# Altium integrated library Linear Technology PMIC-Switching Reg LT1074-LT8705.IntLib: 2252 symbols (part 8 of 124)
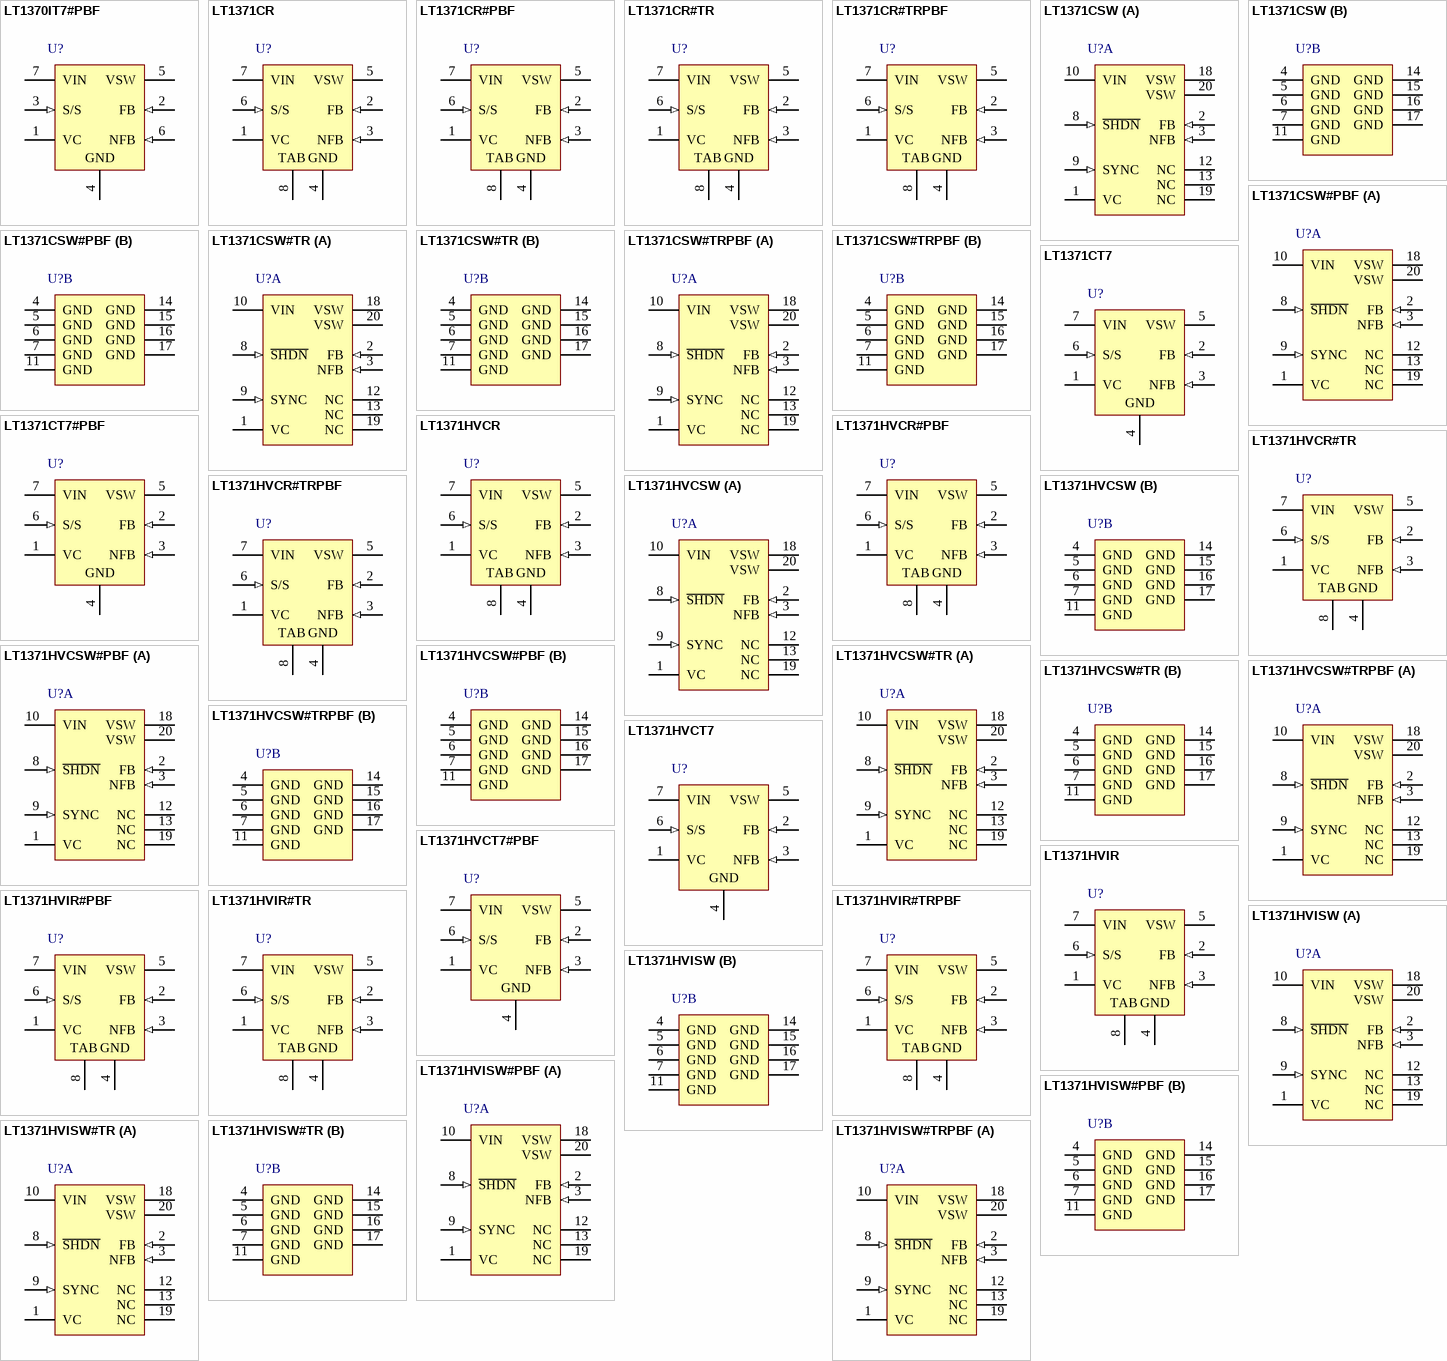
[diagram p78: symbols LT1370IT7#PBF to LT1371HVISW#TRPBF]

## LT1371CSW#PBF
designator U?
500 kHz High Efficiency 3 A Switching Regulator, 20-pin SOIC (SW-20), 0 to 125 degC, Pb-Free; Manufacturer: Linear Technology; PartNumber: LT1371CSW#PBF; Number of Outputs: 1; PackageReference: SW-20; PackageDescription: 20-Pin Plastic Small Outline, Body 12.80 x 7.49 mm, Pitch 1.27 mm; Supplier 1: Digi-Key; Supplier Part Number 1: LT1371CSW#PBF-ND; RoHS: TRUE
footprint LT-SW-20_N (SOIC, 20-Leads, Body 12.8x7.49mm, Pitch 1.27mm, IPC Medium Density)
footprint LT-SW-20_L (SOIC, 20-Leads, Body 12.8x7.49mm, Pitch 1.27mm, IPC High Density)
footprint LT-SW-20_M (SOIC, 20-Leads, Body 12.8x7.49mm, Pitch 1.27mm, IPC Low Density)
part A pins: 1 VC "The Compensation pin is used for frequency compensation, current limiting and soft start. It is the output of the error amplifier and the input of the current comparator. Loop frequency compensation can be performed with an (See Datasheet)", 2 FB (in) "The Feedback pin is used for positive output voltage sensing and oscillator frequency shifting. It is the inverting input to the error amplifier. The noninverting input of this amplifier is internally tied to a 1.245V (See Datasheet)", 3 NFB (in) "The Negative Feedback pin is used for negative output voltage sensing. It is connected to the inverting input of the negative feedback amplifier through a 100k source resistor.", 8 ~{SHDN} (in) "The Shutdown pin is active low and the shutdown threshold is typically 1.3V. For normal operation, pull the S\H\D\N\ pin high, tie it to VIN or leave it floating.", 9 SYNC (in) "To synchronize switching, drive the SYNC pin between 600kHz and 800kHz. If not used, the SYNC pin can be tied high, low or left floating.", 10 VIN (power) "Bypass Input Supply pin with a low ESR capacitor, 10uF or more. The regulator goes into undervoltage lockout when VIN drops below 2.5V. Undervoltage lockout stops switching and pulls the VC pin low.", 12 NC, 13 NC, 18 VSW (power) "The Switch pin is the collector of the power switch and has large currents flowing through it. Keep the traces to the switching components as short as possible to minimize radiation and voltage spikes.", 19 NC, 20 VSW (power) "The Switch pin is the collector of the power switch and has large currents flowing through it. Keep the traces to the switching components as short as possible to minimize radiation and voltage spikes."
part B pins: 4 GND (power) "Tie all Ground pins to a good quality ground plane.", 5 GND (power) "Tie all Ground pins to a good quality ground plane.", 6 GND (power) "Tie all Ground pins to a good quality ground plane.", 7 GND (power) "Tie all Ground pins to a good quality ground plane.", 11 GND (power) "Tie all Ground pins to a good quality ground plane.", 14 GND (power) "Tie all Ground pins to a good quality ground plane.", 15 GND (power) "Tie all Ground pins to a good quality ground plane.", 16 GND (power) "Tie all Ground pins to a good quality ground plane.", 17 GND (power) "Tie all Ground pins to a good quality ground plane."

## LT1371CSW#TR
designator U?
500 kHz High Efficiency 3 A Switching Regulator, 20-pin SOIC (SW-20), 0 to 125 degC, Tape and Reel; Manufacturer: Linear Technology; PartNumber: LT1371CSW#TR; Number of Outputs: 1; PackageReference: SW-20; PackageDescription: 20-Pin Plastic Small Outline, Body 12.80 x 7.49 mm, Pitch 1.27 mm; Supplier 1: Digi-Key; Supplier Part Number 1: LT1371CSW#TR-ND; RoHS: FALSE
footprint LT-SW-20_N (SOIC, 20-Leads, Body 12.8x7.49mm, Pitch 1.27mm, IPC Medium Density)
footprint LT-SW-20_L (SOIC, 20-Leads, Body 12.8x7.49mm, Pitch 1.27mm, IPC High Density)
footprint LT-SW-20_M (SOIC, 20-Leads, Body 12.8x7.49mm, Pitch 1.27mm, IPC Low Density)
part A pins: 1 VC "The Compensation pin is used for frequency compensation, current limiting and soft start. It is the output of the error amplifier and the input of the current comparator. Loop frequency compensation can be performed with an (See Datasheet)", 2 FB (in) "The Feedback pin is used for positive output voltage sensing and oscillator frequency shifting. It is the inverting input to the error amplifier. The noninverting input of this amplifier is internally tied to a 1.245V (See Datasheet)", 3 NFB (in) "The Negative Feedback pin is used for negative output voltage sensing. It is connected to the inverting input of the negative feedback amplifier through a 100k source resistor.", 8 ~{SHDN} (in) "The Shutdown pin is active low and the shutdown threshold is typically 1.3V. For normal operation, pull the S\H\D\N\ pin high, tie it to VIN or leave it floating.", 9 SYNC (in) "To synchronize switching, drive the SYNC pin between 600kHz and 800kHz. If not used, the SYNC pin can be tied high, low or left floating.", 10 VIN (power) "Bypass Input Supply pin with a low ESR capacitor, 10uF or more. The regulator goes into undervoltage lockout when VIN drops below 2.5V. Undervoltage lockout stops switching and pulls the VC pin low.", 12 NC, 13 NC, 18 VSW (power) "The Switch pin is the collector of the power switch and has large currents flowing through it. Keep the traces to the switching components as short as possible to minimize radiation and voltage spikes.", 19 NC, 20 VSW (power) "The Switch pin is the collector of the power switch and has large currents flowing through it. Keep the traces to the switching components as short as possible to minimize radiation and voltage spikes."
part B pins: 4 GND (power) "Tie all Ground pins to a good quality ground plane.", 5 GND (power) "Tie all Ground pins to a good quality ground plane.", 6 GND (power) "Tie all Ground pins to a good quality ground plane.", 7 GND (power) "Tie all Ground pins to a good quality ground plane.", 11 GND (power) "Tie all Ground pins to a good quality ground plane.", 14 GND (power) "Tie all Ground pins to a good quality ground plane.", 15 GND (power) "Tie all Ground pins to a good quality ground plane.", 16 GND (power) "Tie all Ground pins to a good quality ground plane.", 17 GND (power) "Tie all Ground pins to a good quality ground plane."

## LT1371CSW#TRPBF
designator U?
500 kHz High Efficiency 3 A Switching Regulator, 20-pin SOIC (SW-20), 0 to 125 degC, Pb-Free, Tape and Reel; Manufacturer: Linear Technology; PartNumber: LT1371CSW#TRPBF; Number of Outputs: 1; PackageReference: SW-20; PackageDescription: 20-Pin Plastic Small Outline, Body 12.80 x 7.49 mm, Pitch 1.27 mm; Supplier 1: Digi-Key; Supplier Part Number 1: LT1371CSW#TRPBF-ND; RoHS: TRUE
footprint LT-SW-20_N (SOIC, 20-Leads, Body 12.8x7.49mm, Pitch 1.27mm, IPC Medium Density)
footprint LT-SW-20_L (SOIC, 20-Leads, Body 12.8x7.49mm, Pitch 1.27mm, IPC High Density)
footprint LT-SW-20_M (SOIC, 20-Leads, Body 12.8x7.49mm, Pitch 1.27mm, IPC Low Density)
part A pins: 1 VC "The Compensation pin is used for frequency compensation, current limiting and soft start. It is the output of the error amplifier and the input of the current comparator. Loop frequency compensation can be performed with an (See Datasheet)", 2 FB (in) "The Feedback pin is used for positive output voltage sensing and oscillator frequency shifting. It is the inverting input to the error amplifier. The noninverting input of this amplifier is internally tied to a 1.245V (See Datasheet)", 3 NFB (in) "The Negative Feedback pin is used for negative output voltage sensing. It is connected to the inverting input of the negative feedback amplifier through a 100k source resistor.", 8 ~{SHDN} (in) "The Shutdown pin is active low and the shutdown threshold is typically 1.3V. For normal operation, pull the S\H\D\N\ pin high, tie it to VIN or leave it floating.", 9 SYNC (in) "To synchronize switching, drive the SYNC pin between 600kHz and 800kHz. If not used, the SYNC pin can be tied high, low or left floating.", 10 VIN (power) "Bypass Input Supply pin with a low ESR capacitor, 10uF or more. The regulator goes into undervoltage lockout when VIN drops below 2.5V. Undervoltage lockout stops switching and pulls the VC pin low.", 12 NC, 13 NC, 18 VSW (power) "The Switch pin is the collector of the power switch and has large currents flowing through it. Keep the traces to the switching components as short as possible to minimize radiation and voltage spikes.", 19 NC, 20 VSW (power) "The Switch pin is the collector of the power switch and has large currents flowing through it. Keep the traces to the switching components as short as possible to minimize radiation and voltage spikes."
part B pins: 4 GND (power) "Tie all Ground pins to a good quality ground plane.", 5 GND (power) "Tie all Ground pins to a good quality ground plane.", 6 GND (power) "Tie all Ground pins to a good quality ground plane.", 7 GND (power) "Tie all Ground pins to a good quality ground plane.", 11 GND (power) "Tie all Ground pins to a good quality ground plane.", 14 GND (power) "Tie all Ground pins to a good quality ground plane.", 15 GND (power) "Tie all Ground pins to a good quality ground plane.", 16 GND (power) "Tie all Ground pins to a good quality ground plane.", 17 GND (power) "Tie all Ground pins to a good quality ground plane."

## LT1371CT7
designator U?
500 kHz High Efficiency 3 A Switching Regulator, 7-pin FM (T7-7), 0 to 125 degC; Manufacturer: Linear Technology; PartNumber: LT1371CT7; Number of Outputs: 1; PackageReference: T7-7; PackageDescription: 7-Pin Plastic TO-220 (Straight Lead), Body 10.224 x 4.382 mm, Pitch 1.27 mm; Supplier 1: Digi-Key; Supplier Part Number 1: LT1371CT7-ND; RoHS: FALSE
footprint LT-T7-7-S_V (FM, 7-Leads, Body 10.55x4.6mm, Pitch 1.27mm)
pins: 1 VC "The Compensation pin is used for frequency compensation, current limiting and soft start. It is the output of the error amplifier and the input of the current comparator. Loop frequency compensation can be performed with an (See Datasheet)", 2 FB (in) "The Feedback pin is used for positive output voltage sensing and oscillator frequency shifting. It is the inverting input to the error amplifier. The noninverting input of this amplifier is internally tied to a 1.245V (See Datasheet)", 3 NFB (in) "The Negative Feedback pin is used for negative output voltage sensing. It is connected to the inverting input of the negative feedback amplifier through a 100k source resistor.", 4 GND (power) "Tie all Ground pins to a good quality ground plane.", 5 VSW (power) "The Switch pin is the collector of the power switch and has large currents flowing through it. Keep the traces to the switching components as short as possible to minimize radiation and voltage spikes.", 6 S/S (in) "Shutdown and Synchronization Pin. The S/S pin is logic level compatible. Shutdown is active low and the shutdown threshold is typically 1.3V. For normal operation, pull the S/S pin high, tie it to VIN or leave it floating. (See Datasheet)", 7 VIN (power) "Bypass Input Supply pin with a low ESR capacitor, 10uF or more. The regulator goes into undervoltage lockout when VIN drops below 2.5V. Undervoltage lockout stops switching and pulls the VC pin low."

## LT1371CT7#PBF
designator U?
500 kHz High Efficiency 3 A Switching Regulator, 7-pin FM (T7-7), 0 to 125 degC, Pb-Free; Manufacturer: Linear Technology; PartNumber: LT1371CT7#PBF; Number of Outputs: 1; PackageReference: T7-7; PackageDescription: 7-Pin Plastic TO-220 (Straight Lead), Body 10.224 x 4.382 mm, Pitch 1.27 mm; Supplier 1: Digi-Key; Supplier Part Number 1: LT1371CT7#PBF-ND; RoHS: TRUE
footprint LT-T7-7-S_V (FM, 7-Leads, Body 10.55x4.6mm, Pitch 1.27mm)
pins: 1 VC "The Compensation pin is used for frequency compensation, current limiting and soft start. It is the output of the error amplifier and the input of the current comparator. Loop frequency compensation can be performed with an (See Datasheet)", 2 FB (in) "The Feedback pin is used for positive output voltage sensing and oscillator frequency shifting. It is the inverting input to the error amplifier. The noninverting input of this amplifier is internally tied to a 1.245V (See Datasheet)", 3 NFB (in) "The Negative Feedback pin is used for negative output voltage sensing. It is connected to the inverting input of the negative feedback amplifier through a 100k source resistor.", 4 GND (power) "Tie all Ground pins to a good quality ground plane.", 5 VSW (power) "The Switch pin is the collector of the power switch and has large currents flowing through it. Keep the traces to the switching components as short as possible to minimize radiation and voltage spikes.", 6 S/S (in) "Shutdown and Synchronization Pin. The S/S pin is logic level compatible. Shutdown is active low and the shutdown threshold is typically 1.3V. For normal operation, pull the S/S pin high, tie it to VIN or leave it floating. (See Datasheet)", 7 VIN (power) "Bypass Input Supply pin with a low ESR capacitor, 10uF or more. The regulator goes into undervoltage lockout when VIN drops below 2.5V. Undervoltage lockout stops switching and pulls the VC pin low."

## LT1371HVCR
designator U?
500 kHz High Efficiency 3 A Switching Regulator, 7-pin DPAK (R-7), 0 to 125 degC; Manufacturer: Linear Technology; PartNumber: LT1371HVCR; Number of Outputs: 1; PackageReference: R-7; PackageDescription: 7-Pin Plastic DD Pak, Body 10.2235 x 8.89 mm, Pitch 1.27 mm; Supplier 1: Digi-Key; Supplier Part Number 1: LT1371HVCR-ND; RoHS: FALSE
footprint LT-R-7_N (DPAK, 7-Leads, Body 10.224x8.89mm, Pitch 1.27mm, IPC Medium Density)
footprint LT-R-7_L (DPAK, 7-Leads, Body 10.224x8.89mm, Pitch 1.27mm, IPC High Density)
footprint LT-R-7_M (DPAK, 7-Leads, Body 10.224x8.89mm, Pitch 1.27mm, IPC Low Density)
pins: 1 VC "The Compensation pin is used for frequency compensation, current limiting and soft start. It is the output of the error amplifier and the input of the current comparator. Loop frequency compensation can be performed with an (See Datasheet)", 2 FB (in) "The Feedback pin is used for positive output voltage sensing and oscillator frequency shifting. It is the inverting input to the error amplifier. The noninverting input of this amplifier is internally tied to a 1.245V (See Datasheet)", 3 NFB (in) "The Negative Feedback pin is used for negative output voltage sensing. It is connected to the inverting input of the negative feedback amplifier through a 100k source resistor.", 4 GND (power) "Tie all Ground pins to a good quality ground plane.", 5 VSW (power) "The Switch pin is the collector of the power switch and has large currents flowing through it. Keep the traces to the switching components as short as possible to minimize radiation and voltage spikes.", 6 S/S (in) "Shutdown and Synchronization Pin. The S/S pin is logic level compatible. Shutdown is active low and the shutdown threshold is typically 1.3V. For normal operation, pull the S/S pin high, tie it to VIN or leave it floating. (See Datasheet)", 7 VIN (power) "Bypass Input Supply pin with a low ESR capacitor, 10uF or more. The regulator goes into undervoltage lockout when VIN drops below 2.5V. Undervoltage lockout stops switching and pulls the VC pin low.", 8 TAB (power) "Tie all Ground pins to a good quality ground plane."

## LT1371HVCR#PBF
designator U?
500 kHz High Efficiency 3 A Switching Regulator, 7-pin DPAK (R-7), 0 to 125 degC, Pb-Free; Manufacturer: Linear Technology; PartNumber: LT1371HVCR#PBF; Number of Outputs: 1; PackageReference: R-7; PackageDescription: 7-Pin Plastic DD Pak, Body 10.2235 x 8.89 mm, Pitch 1.27 mm; Supplier 1: Digi-Key; Supplier Part Number 1: LT1371HVCR#PBF-ND; RoHS: TRUE
footprint LT-R-7_N (DPAK, 7-Leads, Body 10.224x8.89mm, Pitch 1.27mm, IPC Medium Density)
footprint LT-R-7_L (DPAK, 7-Leads, Body 10.224x8.89mm, Pitch 1.27mm, IPC High Density)
footprint LT-R-7_M (DPAK, 7-Leads, Body 10.224x8.89mm, Pitch 1.27mm, IPC Low Density)
pins: 1 VC "The Compensation pin is used for frequency compensation, current limiting and soft start. It is the output of the error amplifier and the input of the current comparator. Loop frequency compensation can be performed with an (See Datasheet)", 2 FB (in) "The Feedback pin is used for positive output voltage sensing and oscillator frequency shifting. It is the inverting input to the error amplifier. The noninverting input of this amplifier is internally tied to a 1.245V (See Datasheet)", 3 NFB (in) "The Negative Feedback pin is used for negative output voltage sensing. It is connected to the inverting input of the negative feedback amplifier through a 100k source resistor.", 4 GND (power) "Tie all Ground pins to a good quality ground plane.", 5 VSW (power) "The Switch pin is the collector of the power switch and has large currents flowing through it. Keep the traces to the switching components as short as possible to minimize radiation and voltage spikes.", 6 S/S (in) "Shutdown and Synchronization Pin. The S/S pin is logic level compatible. Shutdown is active low and the shutdown threshold is typically 1.3V. For normal operation, pull the S/S pin high, tie it to VIN or leave it floating. (See Datasheet)", 7 VIN (power) "Bypass Input Supply pin with a low ESR capacitor, 10uF or more. The regulator goes into undervoltage lockout when VIN drops below 2.5V. Undervoltage lockout stops switching and pulls the VC pin low.", 8 TAB (power) "Tie all Ground pins to a good quality ground plane."

## LT1371HVCR#TR
designator U?
500 kHz High Efficiency 3 A Switching Regulator, 7-pin DPAK (R-7), 0 to 125 degC, Tape and Reel; Manufacturer: Linear Technology; PartNumber: LT1371HVCR#TR; Number of Outputs: 1; PackageReference: R-7; PackageDescription: 7-Pin Plastic DD Pak, Body 10.2235 x 8.89 mm, Pitch 1.27 mm; Supplier 1: Digi-Key; Supplier Part Number 1: LT1371HVCR#TR-ND; RoHS: FALSE
footprint LT-R-7_N (DPAK, 7-Leads, Body 10.224x8.89mm, Pitch 1.27mm, IPC Medium Density)
footprint LT-R-7_L (DPAK, 7-Leads, Body 10.224x8.89mm, Pitch 1.27mm, IPC High Density)
footprint LT-R-7_M (DPAK, 7-Leads, Body 10.224x8.89mm, Pitch 1.27mm, IPC Low Density)
pins: 1 VC "The Compensation pin is used for frequency compensation, current limiting and soft start. It is the output of the error amplifier and the input of the current comparator. Loop frequency compensation can be performed with an (See Datasheet)", 2 FB (in) "The Feedback pin is used for positive output voltage sensing and oscillator frequency shifting. It is the inverting input to the error amplifier. The noninverting input of this amplifier is internally tied to a 1.245V (See Datasheet)", 3 NFB (in) "The Negative Feedback pin is used for negative output voltage sensing. It is connected to the inverting input of the negative feedback amplifier through a 100k source resistor.", 4 GND (power) "Tie all Ground pins to a good quality ground plane.", 5 VSW (power) "The Switch pin is the collector of the power switch and has large currents flowing through it. Keep the traces to the switching components as short as possible to minimize radiation and voltage spikes.", 6 S/S (in) "Shutdown and Synchronization Pin. The S/S pin is logic level compatible. Shutdown is active low and the shutdown threshold is typically 1.3V. For normal operation, pull the S/S pin high, tie it to VIN or leave it floating. (See Datasheet)", 7 VIN (power) "Bypass Input Supply pin with a low ESR capacitor, 10uF or more. The regulator goes into undervoltage lockout when VIN drops below 2.5V. Undervoltage lockout stops switching and pulls the VC pin low.", 8 TAB (power) "Tie all Ground pins to a good quality ground plane."

## LT1371HVCR#TRPBF
designator U?
500 kHz High Efficiency 3 A Switching Regulator, 7-pin DPAK (R-7), 0 to 125 degC, Pb-Free, Tape and Reel; Manufacturer: Linear Technology; PartNumber: LT1371HVCR#TRPBF; Number of Outputs: 1; PackageReference: R-7; PackageDescription: 7-Pin Plastic DD Pak, Body 10.2235 x 8.89 mm, Pitch 1.27 mm; Supplier 1: Digi-Key; Supplier Part Number 1: LT1371HVCR#TRPBF-ND; RoHS: TRUE
footprint LT-R-7_N (DPAK, 7-Leads, Body 10.224x8.89mm, Pitch 1.27mm, IPC Medium Density)
footprint LT-R-7_L (DPAK, 7-Leads, Body 10.224x8.89mm, Pitch 1.27mm, IPC High Density)
footprint LT-R-7_M (DPAK, 7-Leads, Body 10.224x8.89mm, Pitch 1.27mm, IPC Low Density)
pins: 1 VC "The Compensation pin is used for frequency compensation, current limiting and soft start. It is the output of the error amplifier and the input of the current comparator. Loop frequency compensation can be performed with an (See Datasheet)", 2 FB (in) "The Feedback pin is used for positive output voltage sensing and oscillator frequency shifting. It is the inverting input to the error amplifier. The noninverting input of this amplifier is internally tied to a 1.245V (See Datasheet)", 3 NFB (in) "The Negative Feedback pin is used for negative output voltage sensing. It is connected to the inverting input of the negative feedback amplifier through a 100k source resistor.", 4 GND (power) "Tie all Ground pins to a good quality ground plane.", 5 VSW (power) "The Switch pin is the collector of the power switch and has large currents flowing through it. Keep the traces to the switching components as short as possible to minimize radiation and voltage spikes.", 6 S/S (in) "Shutdown and Synchronization Pin. The S/S pin is logic level compatible. Shutdown is active low and the shutdown threshold is typically 1.3V. For normal operation, pull the S/S pin high, tie it to VIN or leave it floating. (See Datasheet)", 7 VIN (power) "Bypass Input Supply pin with a low ESR capacitor, 10uF or more. The regulator goes into undervoltage lockout when VIN drops below 2.5V. Undervoltage lockout stops switching and pulls the VC pin low.", 8 TAB (power) "Tie all Ground pins to a good quality ground plane."

## LT1371HVCSW
designator U?
500 kHz High Efficiency 3 A Switching Regulator, 20-pin SOIC (SW-20), 0 to 125 degC; Manufacturer: Linear Technology; PartNumber: LT1371HVCSW; Number of Outputs: 1; PackageReference: SW-20; PackageDescription: 20-Pin Plastic Small Outline, Body 12.80 x 7.49 mm, Pitch 1.27 mm; Supplier 1: Digi-Key; Supplier Part Number 1: LT1371HVCSW-ND; RoHS: FALSE
footprint LT-SW-20_N (SOIC, 20-Leads, Body 12.8x7.49mm, Pitch 1.27mm, IPC Medium Density)
footprint LT-SW-20_L (SOIC, 20-Leads, Body 12.8x7.49mm, Pitch 1.27mm, IPC High Density)
footprint LT-SW-20_M (SOIC, 20-Leads, Body 12.8x7.49mm, Pitch 1.27mm, IPC Low Density)
part A pins: 1 VC "The Compensation pin is used for frequency compensation, current limiting and soft start. It is the output of the error amplifier and the input of the current comparator. Loop frequency compensation can be performed with an (See Datasheet)", 2 FB (in) "The Feedback pin is used for positive output voltage sensing and oscillator frequency shifting. It is the inverting input to the error amplifier. The noninverting input of this amplifier is internally tied to a 1.245V (See Datasheet)", 3 NFB (in) "The Negative Feedback pin is used for negative output voltage sensing. It is connected to the inverting input of the negative feedback amplifier through a 100k source resistor.", 8 ~{SHDN} (in) "The Shutdown pin is active low and the shutdown threshold is typically 1.3V. For normal operation, pull the S\H\D\N\ pin high, tie it to VIN or leave it floating.", 9 SYNC (in) "To synchronize switching, drive the SYNC pin between 600kHz and 800kHz. If not used, the SYNC pin can be tied high, low or left floating.", 10 VIN (power) "Bypass Input Supply pin with a low ESR capacitor, 10uF or more. The regulator goes into undervoltage lockout when VIN drops below 2.5V. Undervoltage lockout stops switching and pulls the VC pin low.", 12 NC, 13 NC, 18 VSW (power) "The Switch pin is the collector of the power switch and has large currents flowing through it. Keep the traces to the switching components as short as possible to minimize radiation and voltage spikes.", 19 NC, 20 VSW (power) "The Switch pin is the collector of the power switch and has large currents flowing through it. Keep the traces to the switching components as short as possible to minimize radiation and voltage spikes."
part B pins: 4 GND (power) "Tie all Ground pins to a good quality ground plane.", 5 GND (power) "Tie all Ground pins to a good quality ground plane.", 6 GND (power) "Tie all Ground pins to a good quality ground plane.", 7 GND (power) "Tie all Ground pins to a good quality ground plane.", 11 GND (power) "Tie all Ground pins to a good quality ground plane.", 14 GND (power) "Tie all Ground pins to a good quality ground plane.", 15 GND (power) "Tie all Ground pins to a good quality ground plane.", 16 GND (power) "Tie all Ground pins to a good quality ground plane.", 17 GND (power) "Tie all Ground pins to a good quality ground plane."

## LT1371HVCSW#PBF
designator U?
500 kHz High Efficiency 3 A Switching Regulator, 20-pin SOIC (SW-20), 0 to 125 degC, Pb-Free; Manufacturer: Linear Technology; PartNumber: LT1371HVCSW#PBF; Number of Outputs: 1; PackageReference: SW-20; PackageDescription: 20-Pin Plastic Small Outline, Body 12.80 x 7.49 mm, Pitch 1.27 mm; Supplier 1: Digi-Key; Supplier Part Number 1: LT1371HVCSW#PBF-ND; RoHS: TRUE
footprint LT-SW-20_N (SOIC, 20-Leads, Body 12.8x7.49mm, Pitch 1.27mm, IPC Medium Density)
footprint LT-SW-20_L (SOIC, 20-Leads, Body 12.8x7.49mm, Pitch 1.27mm, IPC High Density)
footprint LT-SW-20_M (SOIC, 20-Leads, Body 12.8x7.49mm, Pitch 1.27mm, IPC Low Density)
part A pins: 1 VC "The Compensation pin is used for frequency compensation, current limiting and soft start. It is the output of the error amplifier and the input of the current comparator. Loop frequency compensation can be performed with an (See Datasheet)", 2 FB (in) "The Feedback pin is used for positive output voltage sensing and oscillator frequency shifting. It is the inverting input to the error amplifier. The noninverting input of this amplifier is internally tied to a 1.245V (See Datasheet)", 3 NFB (in) "The Negative Feedback pin is used for negative output voltage sensing. It is connected to the inverting input of the negative feedback amplifier through a 100k source resistor.", 8 ~{SHDN} (in) "The Shutdown pin is active low and the shutdown threshold is typically 1.3V. For normal operation, pull the S\H\D\N\ pin high, tie it to VIN or leave it floating.", 9 SYNC (in) "To synchronize switching, drive the SYNC pin between 600kHz and 800kHz. If not used, the SYNC pin can be tied high, low or left floating.", 10 VIN (power) "Bypass Input Supply pin with a low ESR capacitor, 10uF or more. The regulator goes into undervoltage lockout when VIN drops below 2.5V. Undervoltage lockout stops switching and pulls the VC pin low.", 12 NC, 13 NC, 18 VSW (power) "The Switch pin is the collector of the power switch and has large currents flowing through it. Keep the traces to the switching components as short as possible to minimize radiation and voltage spikes.", 19 NC, 20 VSW (power) "The Switch pin is the collector of the power switch and has large currents flowing through it. Keep the traces to the switching components as short as possible to minimize radiation and voltage spikes."
part B pins: 4 GND (power) "Tie all Ground pins to a good quality ground plane.", 5 GND (power) "Tie all Ground pins to a good quality ground plane.", 6 GND (power) "Tie all Ground pins to a good quality ground plane.", 7 GND (power) "Tie all Ground pins to a good quality ground plane.", 11 GND (power) "Tie all Ground pins to a good quality ground plane.", 14 GND (power) "Tie all Ground pins to a good quality ground plane.", 15 GND (power) "Tie all Ground pins to a good quality ground plane.", 16 GND (power) "Tie all Ground pins to a good quality ground plane.", 17 GND (power) "Tie all Ground pins to a good quality ground plane."

## LT1371HVCSW#TR
designator U?
500 kHz High Efficiency 3 A Switching Regulator, 20-pin SOIC (SW-20), 0 to 125 degC, Tape and Reel; Manufacturer: Linear Technology; PartNumber: LT1371HVCSW#TR; Number of Outputs: 1; PackageReference: SW-20; PackageDescription: 20-Pin Plastic Small Outline, Body 12.80 x 7.49 mm, Pitch 1.27 mm; Supplier 1: Digi-Key; Supplier Part Number 1: LT1371HVCSW#TR-ND; RoHS: FALSE
footprint LT-SW-20_N (SOIC, 20-Leads, Body 12.8x7.49mm, Pitch 1.27mm, IPC Medium Density)
footprint LT-SW-20_L (SOIC, 20-Leads, Body 12.8x7.49mm, Pitch 1.27mm, IPC High Density)
footprint LT-SW-20_M (SOIC, 20-Leads, Body 12.8x7.49mm, Pitch 1.27mm, IPC Low Density)
part A pins: 1 VC "The Compensation pin is used for frequency compensation, current limiting and soft start. It is the output of the error amplifier and the input of the current comparator. Loop frequency compensation can be performed with an (See Datasheet)", 2 FB (in) "The Feedback pin is used for positive output voltage sensing and oscillator frequency shifting. It is the inverting input to the error amplifier. The noninverting input of this amplifier is internally tied to a 1.245V (See Datasheet)", 3 NFB (in) "The Negative Feedback pin is used for negative output voltage sensing. It is connected to the inverting input of the negative feedback amplifier through a 100k source resistor.", 8 ~{SHDN} (in) "The Shutdown pin is active low and the shutdown threshold is typically 1.3V. For normal operation, pull the S\H\D\N\ pin high, tie it to VIN or leave it floating.", 9 SYNC (in) "To synchronize switching, drive the SYNC pin between 600kHz and 800kHz. If not used, the SYNC pin can be tied high, low or left floating.", 10 VIN (power) "Bypass Input Supply pin with a low ESR capacitor, 10uF or more. The regulator goes into undervoltage lockout when VIN drops below 2.5V. Undervoltage lockout stops switching and pulls the VC pin low.", 12 NC, 13 NC, 18 VSW (power) "The Switch pin is the collector of the power switch and has large currents flowing through it. Keep the traces to the switching components as short as possible to minimize radiation and voltage spikes.", 19 NC, 20 VSW (power) "The Switch pin is the collector of the power switch and has large currents flowing through it. Keep the traces to the switching components as short as possible to minimize radiation and voltage spikes."
part B pins: 4 GND (power) "Tie all Ground pins to a good quality ground plane.", 5 GND (power) "Tie all Ground pins to a good quality ground plane.", 6 GND (power) "Tie all Ground pins to a good quality ground plane.", 7 GND (power) "Tie all Ground pins to a good quality ground plane.", 11 GND (power) "Tie all Ground pins to a good quality ground plane.", 14 GND (power) "Tie all Ground pins to a good quality ground plane.", 15 GND (power) "Tie all Ground pins to a good quality ground plane.", 16 GND (power) "Tie all Ground pins to a good quality ground plane.", 17 GND (power) "Tie all Ground pins to a good quality ground plane."

## LT1371HVCSW#TRPBF
designator U?
500 kHz High Efficiency 3 A Switching Regulator, 20-pin SOIC (SW-20), 0 to 125 degC, Pb-Free, Tape and Reel; Manufacturer: Linear Technology; PartNumber: LT1371HVCSW#TRPBF; Number of Outputs: 1; PackageReference: SW-20; PackageDescription: 20-Pin Plastic Small Outline, Body 12.80 x 7.49 mm, Pitch 1.27 mm; Supplier 1: Digi-Key; Supplier Part Number 1: LT1371HVCSW#TRPBF-ND; RoHS: TRUE
footprint LT-SW-20_N (SOIC, 20-Leads, Body 12.8x7.49mm, Pitch 1.27mm, IPC Medium Density)
footprint LT-SW-20_L (SOIC, 20-Leads, Body 12.8x7.49mm, Pitch 1.27mm, IPC High Density)
footprint LT-SW-20_M (SOIC, 20-Leads, Body 12.8x7.49mm, Pitch 1.27mm, IPC Low Density)
part A pins: 1 VC "The Compensation pin is used for frequency compensation, current limiting and soft start. It is the output of the error amplifier and the input of the current comparator. Loop frequency compensation can be performed with an (See Datasheet)", 2 FB (in) "The Feedback pin is used for positive output voltage sensing and oscillator frequency shifting. It is the inverting input to the error amplifier. The noninverting input of this amplifier is internally tied to a 1.245V (See Datasheet)", 3 NFB (in) "The Negative Feedback pin is used for negative output voltage sensing. It is connected to the inverting input of the negative feedback amplifier through a 100k source resistor.", 8 ~{SHDN} (in) "The Shutdown pin is active low and the shutdown threshold is typically 1.3V. For normal operation, pull the S\H\D\N\ pin high, tie it to VIN or leave it floating.", 9 SYNC (in) "To synchronize switching, drive the SYNC pin between 600kHz and 800kHz. If not used, the SYNC pin can be tied high, low or left floating.", 10 VIN (power) "Bypass Input Supply pin with a low ESR capacitor, 10uF or more. The regulator goes into undervoltage lockout when VIN drops below 2.5V. Undervoltage lockout stops switching and pulls the VC pin low.", 12 NC, 13 NC, 18 VSW (power) "The Switch pin is the collector of the power switch and has large currents flowing through it. Keep the traces to the switching components as short as possible to minimize radiation and voltage spikes.", 19 NC, 20 VSW (power) "The Switch pin is the collector of the power switch and has large currents flowing through it. Keep the traces to the switching components as short as possible to minimize radiation and voltage spikes."
part B pins: 4 GND (power) "Tie all Ground pins to a good quality ground plane.", 5 GND (power) "Tie all Ground pins to a good quality ground plane.", 6 GND (power) "Tie all Ground pins to a good quality ground plane.", 7 GND (power) "Tie all Ground pins to a good quality ground plane.", 11 GND (power) "Tie all Ground pins to a good quality ground plane.", 14 GND (power) "Tie all Ground pins to a good quality ground plane.", 15 GND (power) "Tie all Ground pins to a good quality ground plane.", 16 GND (power) "Tie all Ground pins to a good quality ground plane.", 17 GND (power) "Tie all Ground pins to a good quality ground plane."

## LT1371HVCT7
designator U?
500 kHz High Efficiency 3 A Switching Regulator, 7-pin FM (T7-7), 0 to 125 degC; Manufacturer: Linear Technology; PartNumber: LT1371HVCT7; Number of Outputs: 1; PackageReference: T7-7; PackageDescription: 7-Pin Plastic TO-220 (Straight Lead), Body 10.224 x 4.382 mm, Pitch 1.27 mm; Supplier 1: Digi-Key; Supplier Part Number 1: LT1371HVCT7-ND; RoHS: FALSE
footprint LT-T7-7-S_V (FM, 7-Leads, Body 10.55x4.6mm, Pitch 1.27mm)
pins: 1 VC "The Compensation pin is used for frequency compensation, current limiting and soft start. It is the output of the error amplifier and the input of the current comparator. Loop frequency compensation can be performed with an (See Datasheet)", 2 FB (in) "The Feedback pin is used for positive output voltage sensing and oscillator frequency shifting. It is the inverting input to the error amplifier. The noninverting input of this amplifier is internally tied to a 1.245V (See Datasheet)", 3 NFB (in) "The Negative Feedback pin is used for negative output voltage sensing. It is connected to the inverting input of the negative feedback amplifier through a 100k source resistor.", 4 GND (power) "Tie all Ground pins to a good quality ground plane.", 5 VSW (power) "The Switch pin is the collector of the power switch and has large currents flowing through it. Keep the traces to the switching components as short as possible to minimize radiation and voltage spikes.", 6 S/S (in) "Shutdown and Synchronization Pin. The S/S pin is logic level compatible. Shutdown is active low and the shutdown threshold is typically 1.3V. For normal operation, pull the S/S pin high, tie it to VIN or leave it floating. (See Datasheet)", 7 VIN (power) "Bypass Input Supply pin with a low ESR capacitor, 10uF or more. The regulator goes into undervoltage lockout when VIN drops below 2.5V. Undervoltage lockout stops switching and pulls the VC pin low."

## LT1371HVCT7#PBF
designator U?
500 kHz High Efficiency 3 A Switching Regulator, 7-pin FM (T7-7), 0 to 125 degC, Pb-Free; Manufacturer: Linear Technology; PartNumber: LT1371HVCT7#PBF; Number of Outputs: 1; PackageReference: T7-7; PackageDescription: 7-Pin Plastic TO-220 (Straight Lead), Body 10.224 x 4.382 mm, Pitch 1.27 mm; Supplier 1: Digi-Key; Supplier Part Number 1: LT1371HVCT7#PBF-ND; RoHS: TRUE
footprint LT-T7-7-S_V (FM, 7-Leads, Body 10.55x4.6mm, Pitch 1.27mm)
pins: 1 VC "The Compensation pin is used for frequency compensation, current limiting and soft start. It is the output of the error amplifier and the input of the current comparator. Loop frequency compensation can be performed with an (See Datasheet)", 2 FB (in) "The Feedback pin is used for positive output voltage sensing and oscillator frequency shifting. It is the inverting input to the error amplifier. The noninverting input of this amplifier is internally tied to a 1.245V (See Datasheet)", 3 NFB (in) "The Negative Feedback pin is used for negative output voltage sensing. It is connected to the inverting input of the negative feedback amplifier through a 100k source resistor.", 4 GND (power) "Tie all Ground pins to a good quality ground plane.", 5 VSW (power) "The Switch pin is the collector of the power switch and has large currents flowing through it. Keep the traces to the switching components as short as possible to minimize radiation and voltage spikes.", 6 S/S (in) "Shutdown and Synchronization Pin. The S/S pin is logic level compatible. Shutdown is active low and the shutdown threshold is typically 1.3V. For normal operation, pull the S/S pin high, tie it to VIN or leave it floating. (See Datasheet)", 7 VIN (power) "Bypass Input Supply pin with a low ESR capacitor, 10uF or more. The regulator goes into undervoltage lockout when VIN drops below 2.5V. Undervoltage lockout stops switching and pulls the VC pin low."

## LT1371HVIR
designator U?
500 kHz High Efficiency 3 A Switching Regulator, 7-pin DPAK (R-7), -40 to 125 degC; Manufacturer: Linear Technology; PartNumber: LT1371HVIR; Number of Outputs: 1; PackageReference: R-7; PackageDescription: 7-Pin Plastic DD Pak, Body 10.2235 x 8.89 mm, Pitch 1.27 mm; Supplier 1: Digi-Key; Supplier Part Number 1: LT1371HVIR-ND; RoHS: FALSE
footprint LT-R-7_N (DPAK, 7-Leads, Body 10.224x8.89mm, Pitch 1.27mm, IPC Medium Density)
footprint LT-R-7_L (DPAK, 7-Leads, Body 10.224x8.89mm, Pitch 1.27mm, IPC High Density)
footprint LT-R-7_M (DPAK, 7-Leads, Body 10.224x8.89mm, Pitch 1.27mm, IPC Low Density)
pins: 1 VC "The Compensation pin is used for frequency compensation, current limiting and soft start. It is the output of the error amplifier and the input of the current comparator. Loop frequency compensation can be performed with an (See Datasheet)", 2 FB (in) "The Feedback pin is used for positive output voltage sensing and oscillator frequency shifting. It is the inverting input to the error amplifier. The noninverting input of this amplifier is internally tied to a 1.245V (See Datasheet)", 3 NFB (in) "The Negative Feedback pin is used for negative output voltage sensing. It is connected to the inverting input of the negative feedback amplifier through a 100k source resistor.", 4 GND (power) "Tie all Ground pins to a good quality ground plane.", 5 VSW (power) "The Switch pin is the collector of the power switch and has large currents flowing through it. Keep the traces to the switching components as short as possible to minimize radiation and voltage spikes.", 6 S/S (in) "Shutdown and Synchronization Pin. The S/S pin is logic level compatible. Shutdown is active low and the shutdown threshold is typically 1.3V. For normal operation, pull the S/S pin high, tie it to VIN or leave it floating. (See Datasheet)", 7 VIN (power) "Bypass Input Supply pin with a low ESR capacitor, 10uF or more. The regulator goes into undervoltage lockout when VIN drops below 2.5V. Undervoltage lockout stops switching and pulls the VC pin low.", 8 TAB (power) "Tie all Ground pins to a good quality ground plane."

## LT1371HVIR#PBF
designator U?
500 kHz High Efficiency 3 A Switching Regulator, 7-pin DPAK (R-7), -40 to 125 degC, Pb-Free; Manufacturer: Linear Technology; PartNumber: LT1371HVIR#PBF; Number of Outputs: 1; PackageReference: R-7; PackageDescription: 7-Pin Plastic DD Pak, Body 10.2235 x 8.89 mm, Pitch 1.27 mm; Supplier 1: Digi-Key; Supplier Part Number 1: LT1371HVIR#PBF-ND; RoHS: TRUE
footprint LT-R-7_N (DPAK, 7-Leads, Body 10.224x8.89mm, Pitch 1.27mm, IPC Medium Density)
footprint LT-R-7_L (DPAK, 7-Leads, Body 10.224x8.89mm, Pitch 1.27mm, IPC High Density)
footprint LT-R-7_M (DPAK, 7-Leads, Body 10.224x8.89mm, Pitch 1.27mm, IPC Low Density)
pins: 1 VC "The Compensation pin is used for frequency compensation, current limiting and soft start. It is the output of the error amplifier and the input of the current comparator. Loop frequency compensation can be performed with an (See Datasheet)", 2 FB (in) "The Feedback pin is used for positive output voltage sensing and oscillator frequency shifting. It is the inverting input to the error amplifier. The noninverting input of this amplifier is internally tied to a 1.245V (See Datasheet)", 3 NFB (in) "The Negative Feedback pin is used for negative output voltage sensing. It is connected to the inverting input of the negative feedback amplifier through a 100k source resistor.", 4 GND (power) "Tie all Ground pins to a good quality ground plane.", 5 VSW (power) "The Switch pin is the collector of the power switch and has large currents flowing through it. Keep the traces to the switching components as short as possible to minimize radiation and voltage spikes.", 6 S/S (in) "Shutdown and Synchronization Pin. The S/S pin is logic level compatible. Shutdown is active low and the shutdown threshold is typically 1.3V. For normal operation, pull the S/S pin high, tie it to VIN or leave it floating. (See Datasheet)", 7 VIN (power) "Bypass Input Supply pin with a low ESR capacitor, 10uF or more. The regulator goes into undervoltage lockout when VIN drops below 2.5V. Undervoltage lockout stops switching and pulls the VC pin low.", 8 TAB (power) "Tie all Ground pins to a good quality ground plane."

## LT1371HVIR#TR
designator U?
500 kHz High Efficiency 3 A Switching Regulator, 7-pin DPAK (R-7), -40 to 125 degC, Tape and Reel; Manufacturer: Linear Technology; PartNumber: LT1371HVIR#TR; Number of Outputs: 1; PackageReference: R-7; PackageDescription: 7-Pin Plastic DD Pak, Body 10.2235 x 8.89 mm, Pitch 1.27 mm; Supplier 1: Digi-Key; Supplier Part Number 1: LT1371HVIR#TR-ND; RoHS: FALSE
footprint LT-R-7_N (DPAK, 7-Leads, Body 10.224x8.89mm, Pitch 1.27mm, IPC Medium Density)
footprint LT-R-7_L (DPAK, 7-Leads, Body 10.224x8.89mm, Pitch 1.27mm, IPC High Density)
footprint LT-R-7_M (DPAK, 7-Leads, Body 10.224x8.89mm, Pitch 1.27mm, IPC Low Density)
pins: 1 VC "The Compensation pin is used for frequency compensation, current limiting and soft start. It is the output of the error amplifier and the input of the current comparator. Loop frequency compensation can be performed with an (See Datasheet)", 2 FB (in) "The Feedback pin is used for positive output voltage sensing and oscillator frequency shifting. It is the inverting input to the error amplifier. The noninverting input of this amplifier is internally tied to a 1.245V (See Datasheet)", 3 NFB (in) "The Negative Feedback pin is used for negative output voltage sensing. It is connected to the inverting input of the negative feedback amplifier through a 100k source resistor.", 4 GND (power) "Tie all Ground pins to a good quality ground plane.", 5 VSW (power) "The Switch pin is the collector of the power switch and has large currents flowing through it. Keep the traces to the switching components as short as possible to minimize radiation and voltage spikes.", 6 S/S (in) "Shutdown and Synchronization Pin. The S/S pin is logic level compatible. Shutdown is active low and the shutdown threshold is typically 1.3V. For normal operation, pull the S/S pin high, tie it to VIN or leave it floating. (See Datasheet)", 7 VIN (power) "Bypass Input Supply pin with a low ESR capacitor, 10uF or more. The regulator goes into undervoltage lockout when VIN drops below 2.5V. Undervoltage lockout stops switching and pulls the VC pin low.", 8 TAB (power) "Tie all Ground pins to a good quality ground plane."

## LT1371HVIR#TRPBF
designator U?
500 kHz High Efficiency 3 A Switching Regulator, 7-pin DPAK (R-7), -40 to 125 degC, Pb-Free, Tape and Reel; Manufacturer: Linear Technology; PartNumber: LT1371HVIR#TRPBF; Number of Outputs: 1; PackageReference: R-7; PackageDescription: 7-Pin Plastic DD Pak, Body 10.2235 x 8.89 mm, Pitch 1.27 mm; Supplier 1: Digi-Key; Supplier Part Number 1: LT1371HVIR#TRPBF-ND; RoHS: TRUE
footprint LT-R-7_N (DPAK, 7-Leads, Body 10.224x8.89mm, Pitch 1.27mm, IPC Medium Density)
footprint LT-R-7_L (DPAK, 7-Leads, Body 10.224x8.89mm, Pitch 1.27mm, IPC High Density)
footprint LT-R-7_M (DPAK, 7-Leads, Body 10.224x8.89mm, Pitch 1.27mm, IPC Low Density)
pins: 1 VC "The Compensation pin is used for frequency compensation, current limiting and soft start. It is the output of the error amplifier and the input of the current comparator. Loop frequency compensation can be performed with an (See Datasheet)", 2 FB (in) "The Feedback pin is used for positive output voltage sensing and oscillator frequency shifting. It is the inverting input to the error amplifier. The noninverting input of this amplifier is internally tied to a 1.245V (See Datasheet)", 3 NFB (in) "The Negative Feedback pin is used for negative output voltage sensing. It is connected to the inverting input of the negative feedback amplifier through a 100k source resistor.", 4 GND (power) "Tie all Ground pins to a good quality ground plane.", 5 VSW (power) "The Switch pin is the collector of the power switch and has large currents flowing through it. Keep the traces to the switching components as short as possible to minimize radiation and voltage spikes.", 6 S/S (in) "Shutdown and Synchronization Pin. The S/S pin is logic level compatible. Shutdown is active low and the shutdown threshold is typically 1.3V. For normal operation, pull the S/S pin high, tie it to VIN or leave it floating. (See Datasheet)", 7 VIN (power) "Bypass Input Supply pin with a low ESR capacitor, 10uF or more. The regulator goes into undervoltage lockout when VIN drops below 2.5V. Undervoltage lockout stops switching and pulls the VC pin low.", 8 TAB (power) "Tie all Ground pins to a good quality ground plane."

## LT1371HVISW
designator U?
500 kHz High Efficiency 3 A Switching Regulator, 20-pin SOIC (SW-20), -40 to 125 degC; Manufacturer: Linear Technology; PartNumber: LT1371HVISW; Number of Outputs: 1; PackageReference: SW-20; PackageDescription: 20-Pin Plastic Small Outline, Body 12.80 x 7.49 mm, Pitch 1.27 mm; Supplier 1: Digi-Key; Supplier Part Number 1: LT1371HVISW-ND; RoHS: FALSE
footprint LT-SW-20_N (SOIC, 20-Leads, Body 12.8x7.49mm, Pitch 1.27mm, IPC Medium Density)
footprint LT-SW-20_L (SOIC, 20-Leads, Body 12.8x7.49mm, Pitch 1.27mm, IPC High Density)
footprint LT-SW-20_M (SOIC, 20-Leads, Body 12.8x7.49mm, Pitch 1.27mm, IPC Low Density)
part A pins: 1 VC "The Compensation pin is used for frequency compensation, current limiting and soft start. It is the output of the error amplifier and the input of the current comparator. Loop frequency compensation can be performed with an (See Datasheet)", 2 FB (in) "The Feedback pin is used for positive output voltage sensing and oscillator frequency shifting. It is the inverting input to the error amplifier. The noninverting input of this amplifier is internally tied to a 1.245V (See Datasheet)", 3 NFB (in) "The Negative Feedback pin is used for negative output voltage sensing. It is connected to the inverting input of the negative feedback amplifier through a 100k source resistor.", 8 ~{SHDN} (in) "The Shutdown pin is active low and the shutdown threshold is typically 1.3V. For normal operation, pull the S\H\D\N\ pin high, tie it to VIN or leave it floating.", 9 SYNC (in) "To synchronize switching, drive the SYNC pin between 600kHz and 800kHz. If not used, the SYNC pin can be tied high, low or left floating.", 10 VIN (power) "Bypass Input Supply pin with a low ESR capacitor, 10uF or more. The regulator goes into undervoltage lockout when VIN drops below 2.5V. Undervoltage lockout stops switching and pulls the VC pin low.", 12 NC, 13 NC, 18 VSW (power) "The Switch pin is the collector of the power switch and has large currents flowing through it. Keep the traces to the switching components as short as possible to minimize radiation and voltage spikes.", 19 NC, 20 VSW (power) "The Switch pin is the collector of the power switch and has large currents flowing through it. Keep the traces to the switching components as short as possible to minimize radiation and voltage spikes."
part B pins: 4 GND (power) "Tie all Ground pins to a good quality ground plane.", 5 GND (power) "Tie all Ground pins to a good quality ground plane.", 6 GND (power) "Tie all Ground pins to a good quality ground plane.", 7 GND (power) "Tie all Ground pins to a good quality ground plane.", 11 GND (power) "Tie all Ground pins to a good quality ground plane.", 14 GND (power) "Tie all Ground pins to a good quality ground plane.", 15 GND (power) "Tie all Ground pins to a good quality ground plane.", 16 GND (power) "Tie all Ground pins to a good quality ground plane.", 17 GND (power) "Tie all Ground pins to a good quality ground plane."